# EAGLE library part 692622030100 (library Wurth_Elektronik_Electromechanic_Input-Output_Connectors_rev15c)
WR-COMMICRO USB 3.0 HORIZONTAL SMT TYPE B=>Code :Con_I-O_COM_MicroUSB_692622030100 <http://katalog.we-online.de/media/images/eican/Con_I-O_COM_MicroUSB_692622030100_pf2.jpg> Details see: http://katalog.we-online.de/en/em/692_622_030_100 Created 2014-07-09, Karrer Zheng 2014 (C) Würth Elektronik
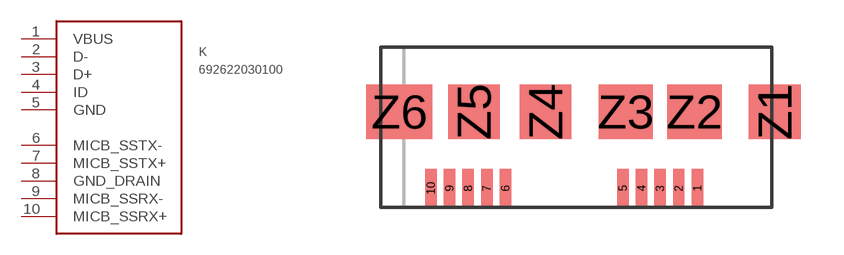
[diagram p88: symbol with the pads of 692622030100; footprint 692622030100]

Designator prefix K

## 692622030100  [692622030100]
1  VBUS
2  D-
3  D+
4  ID
5  GND
6  MICB_SSTX-
7  MICB_SSTX+
8  GND_DRAIN
9  MICB_SSRX-
10  MICB_SSRX+

## Footprint 692622030100 (pad centres in mm)
WR-COM MICRO USB 3.0 HORIZONTAL SMT TYPE B
smd 0.4 x 1.35: 1 8,0.675; 2 7.35,0.675; 3 6.7,0.675; 4 6.05,0.675; 5 5.4,0.675; 6 1.3,0.675; 7 0.65,0.675; 8 0,0.675; 9 -0.65,0.675; 10 -1.3,0.675
smd 1.8 x 1.9: Z1 10.7,3.35; Z4 2.7,3.35; Z5 0.2,3.35
smd 1.9 x 1.9: Z2 7.9,3.35; Z3 5.5,3.35
smd 2.3 x 1.9: Z6 -2.4,3.35